# Altium schematic symbol library Type_C硬盘盒.SCHLIB: 16 symbols
Pins are listed as number, name and electrical type; pins without a type are passive.

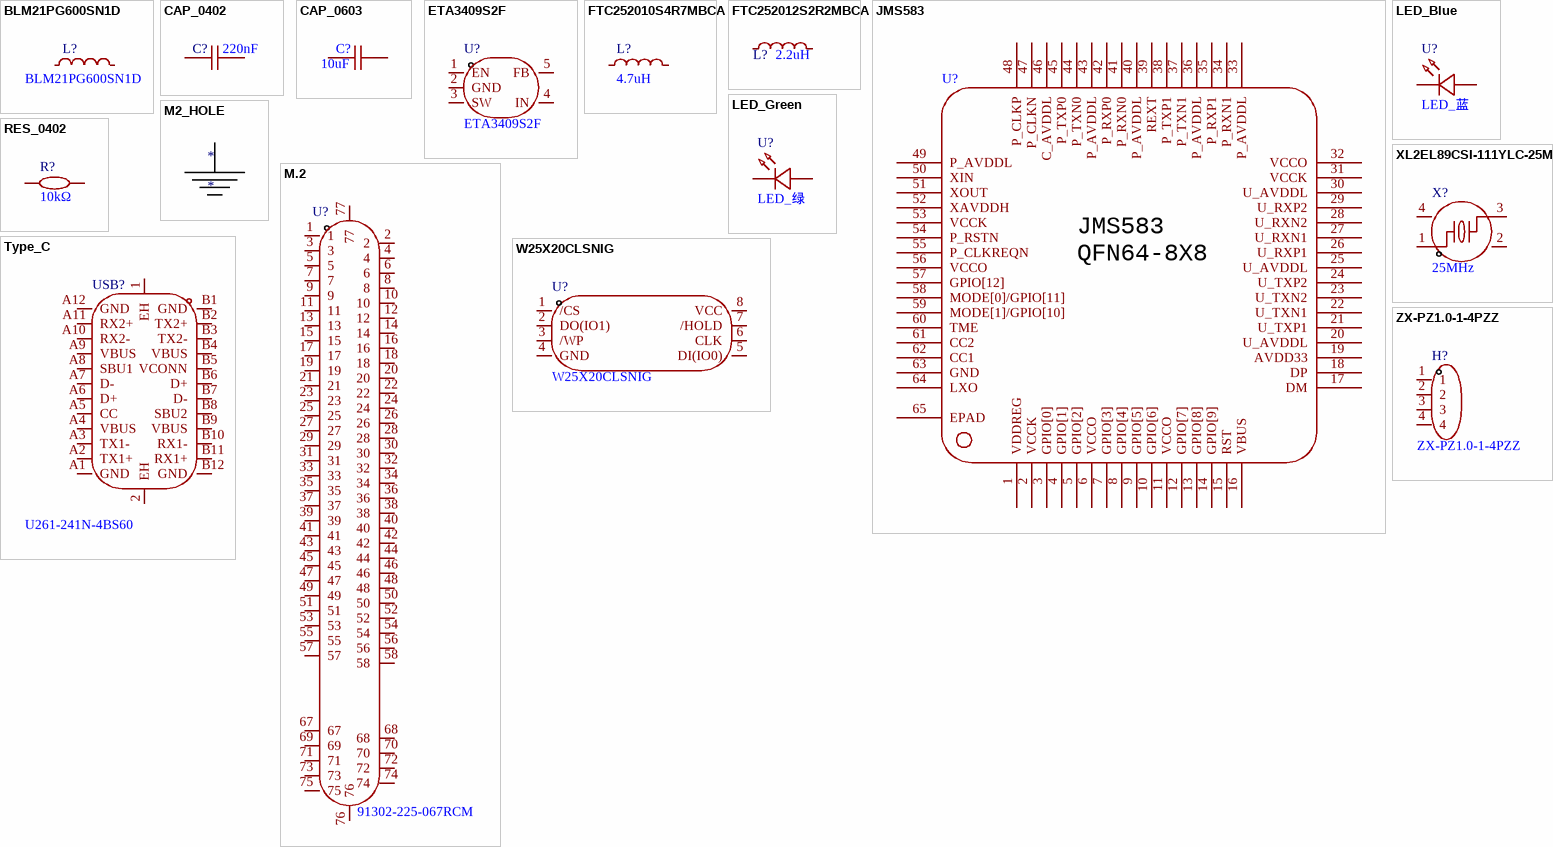
[diagram p0: symbols BLM21PG600SN1D to ZX-PZ1.0-1-4PZZ]

## BLM21PG600SN1D
designator L?
Manufacturer: muRata(村田); Add into BOM: yes; Impedance @ Frequency: 60Ω@100MHz; Tolerance: ±25%; DC Resistance(DCR): 20mΩ; Current Rating: 3.5A; Number of Circuits: 1; Symbol: BLM21PG600SN1D; Device: BLM21PG600SN1D; LCSC Part Name: 单路 0805磁珠 阻抗60Ω@100MHz; Supplier Part: C18305; Manufacturer Part: BLM21PG600SN1D; Supplier Footprint: 0805; JLCPCB Part Class: 扩展库; Datasheet: https://item.szlcsc.com/datasheet/BLM21PG600SN1D/19000.html; Supplier: LCSC; Convert to PCB: yes
footprint L0805
3D model R0805_L2.0-W1.3-H0.6
pins: 1, 2

## CAP_0402
designator C?, comment 220nF
Manufacturer: SAMSUNG(三星); Symbol: CL05B104KB54PNC; Add into BOM: yes; Tolerance: ±10%; Voltage Rating: 50V; Temperature Coefficient: X7R; Device: CL05B104KB54PNC; LCSC Part Name: 100nF ±10% 50V; Manufacturer Part: CL05B104KB54PNC; Supplier Footprint: 0402; JLCPCB Part Class: 基础库; Datasheet: https://item.szlcsc.com/datasheet/CL05B104KB54PNC/291005.html; Supplier: LCSC; Convert to PCB: yes; Value: 220nF
footprint C0402
3D model C0402_L1.0-W0.5-H0.5
pins: 1, 2

## CAP_0603
designator C?, comment 10uF
Symbol: Capacitance; Device: CAP_0603; Convert to PCB: yes; Add into BOM: yes; Supplier Footprint: 0603; Value: 10uF
footprint C0603
3D model C0603_L1.6-W0.8-H0.8
pins: 1, 2

## ETA3409S2F
designator U?
Manufacturer: ETA(钰泰); Add into BOM: yes; Function: 降压型; Output Type: 可调; Voltage - Supply: 2.4V~7.3V; Output Current: 3A; Frequency - Switching: 1MHz; Number of Outputs: 1; Topology: 降压式; Switch tube (built-in/external): 内置; Symbol: ETA3409S2F; Device: ETA3409S2F; LCSC Part Name: 3A 1MHz 同步降压转换器; Supplier Part: C7465553; Manufacturer Part: ETA3409S2F; Supplier Footprint: SOT23-5; JLCPCB Part Class: 扩展库; Datasheet: https://atta.szlcsc.com/upload/public/pdf/source/20230717/1A18EB96698AD4DC30E5926DF3CDB8A4.pdf; Supplier: LCSC; Convert to PCB: yes; Operating Temperature: -40℃~+85℃; Synchronous Rectifier: -; Quiescent Current: -
footprint SOT-23-5_L2.9-W1.6-P0.95-LS2.8-BL
3D model SOT-23-5_L2.9-W1.6-P0.95-LS2.8-BL
pins: 1 EN, 2 GND, 3 SW, 4 IN, 5 FB

## FTC252010S4R7MBCA
designator L?, comment 4.7uH
Manufacturer: cjiang(长江微电); Symbol: FTC252010S4R7MBCA; Add into BOM: yes; Tolerance: ±20%; Current Rating: 2A; Current - Saturation(Isat): 2.6A; DC Resistance(DCR): 160mΩ; Device: FTC252010S4R7MBCA; LCSC Part Name: 4.7uH ±20% 2.6A; Supplier Part: C5832360; Manufacturer Part: FTC252010S4R7MBCA; Supplier Footprint: 1008; JLCPCB Part Class: 扩展库; Datasheet: https://item.szlcsc.com/datasheet/FTC252010S4R7MBCA/6763480.html; Supplier: LCSC; Convert to PCB: yes; Value: 4.7uH; Type: -
footprint IND-SMD_L2.5-W2.0-VLS252012CX-150M
3D model IND-SMD_L2.5-W2.0-VLS252012CX-150M
pins: 1, 2

## FTC252012S2R2MBCA
designator L?, comment 2.2uH
Manufacturer: cjiang(长江微电); Symbol: FTC252012S2R2MBCA; Add into BOM: yes; Tolerance: ±20%; Rated Current: 3A; Saturation Current (Isat): 3.8A; DC Resistance (DCR): 55mΩ; Type: 一体成型电感; Device: FTC252012S2R2MBCA; LCSC Part Name: 2.2uH ±20% 3.8A; Supplier Part: C5832372; Manufacturer Part: FTC252012S2R2MBCA; Supplier Footprint: 1008; JLCPCB Part Class: 扩展库; Datasheet: https://atta.szlcsc.com/upload/public/pdf/source/20230602/8FFEDA9C0247A92A0D4B67554BFE4091.pdf; Supplier: LCSC; Convert to PCB: yes; Value: 2.2uH
footprint IND-SMD_L2.5-W2.0_MHCHL2520
3D model IND-SMD_L2.5-W2.0_MHCHL2520
pins: 1, 2

## JMS583
designator U?  (value not drawn)
Add into BOM: yes; PCB Footprint: QFN64-8X8-1; Symbol: JMS583; Device: JMS583; Convert to PCB: yes
footprint QFN-64_L8.0-W8.0-P0.40-TL-EP6.0
pins: 1 VDDREG, 2 VCCK, 3 GPIO[0], 4 GPIO[1], 5 GPIO[2], 6 VCCO, 7 GPIO[3], 8 GPIO[4], 9 GPIO[5], 10 GPIO[6], 11 VCCO, 12 GPIO[7], 13 GPIO[8], 14 GPIO[9], 15 RST, 16 VBUS, 17 DM, 18 DP, 19 AVDD33, 20 U_AVDDL, 21 U_TXP1, 22 U_TXN1, 23 U_TXN2, 24 U_TXP2, 25 U_AVDDL, 26 U_RXP1, 27 U_RXN1, 28 U_RXN2, 29 U_RXP2, 30 U_AVDDL, 31 VCCK, 32 VCCO, 33 P_AVDDL, 34 P_RXN1, 35 P_RXP1, 36 P_AVDDL, 37 P_TXN1, 38 P_TXP1, 39 REXT, 40 P_AVDDL, 41 P_RXN0, 42 P_RXP0, 43 P_AVDDL, 44 P_TXN0, 45 P_TXP0, 46 C_AVDDL, 47 P_CLKN, 48 P_CLKP, 49 P_AVDDL, 50 XIN, 51 XOUT, 52 XAVDDH, 53 VCCK, 54 P_RSTN, 55 P_CLKREQN, 56 VCCO, 57 GPIO[12], 58 MODE[0]/GPIO[11], 59 MODE[1]/GPIO[10], 60 TME, 61 CC2, 62 CC1, 63 GND, 64 LXO, 65 EPAD
text: JMS583 / QFN64-8X8

## LED_Blue
designator U?, comment LED_蓝
Manufacturer: XINGLIGHT(成兴光); Symbol: XL-1608UBC-06A; Add into BOM: yes; Illumination Color: 蓝色; Voltage - Forward(Vf): 2.6V~3V; Forward Current: 5mA; Wavelength - Dominant: 456nm~476nm; Lens Color: 无色透明透镜; Viewing Angle: 130°; Mounting Sytle: 正贴; Device: XL-1608UBC-06A; LCSC Part Name: XL-1608UBC-06A; Supplier Part: C7371904; Manufacturer Part: LED_蓝; Supplier Footprint: 0603; JLCPCB Part Class: 扩展库; Datasheet: https://item.szlcsc.com/datasheet/XL-1608UBC-06A/8342976.html; Supplier: LCSC; Convert to PCB: yes; Lamp Holder Type: -; Power(Watts): -; Peak Wavelength: -; Diode Configuration: -; Color Temperature: -; Luminous Intensity: -; Operating Temperature: -
footprint LED0603-R-RD
3D model LED0603-R-RD
pins: 1 A, 2 K

## LED_Green
designator U?, comment LED_绿
Manufacturer: XINGLIGHT(成兴光); Symbol: XL-1608PGC-06; Add into BOM: yes; Illumination Color: 翠绿色; Voltage - Forward(Vf): 2.6V~3V; Wavelength - Dominant: 515nm~530nm; Peak Wavelength: 525nm; Lens Color: 绿色透镜; Luminous Intensity: 900mcd; Viewing Angle: 120°; Device: XL-1608PGC-06; LCSC Part Name: 0603加粉翠绿0.6T贴片式发光二极管; Supplier Part: C7371905; Manufacturer Part: LED_绿; Supplier Footprint: 0603; JLCPCB Part Class: 扩展库; Datasheet: https://item.szlcsc.com/datasheet/XL-1608PGC-06/8342977.html; Supplier: LCSC; Convert to PCB: yes; Lamp Holder Type: -; Power(Watts): -; Forward Current: -; Diode Configuration: -; Color Temperature: -; Mounting Style: 正贴; Operating Temperature: -
footprint LED0603-RD_GREEN
3D model LED0603-RD_GREEN
pins: 1 K, 2 A

## M2_HOLE
designator *
footprint M2_HOLE
pins: 0

## M.2
designator U?, comment 91302-225-067RCM
Manufacturer: UMaxconn(友贸); Add into BOM: yes; Interface Form: M.2-M Key; Connector Type: 母; Supplementary Features: 带柱; Symbol: 91302-225-067RCM; Device: 91302-225-067RCM; LCSC Part Name: 91302-225-067RCM; Supplier Part: C42387244; Manufacturer Part: 91302-225-067RCM; Supplier Footprint: SMD; JLCPCB Part Class: 扩展库; Datasheet: https://atta.szlcsc.com/upload/public/pdf/source/20241115/E5280E40E542625C5F46F982007C9B56.pdf; Supplier: LCSC; Convert to PCB: yes; Number of Pins: 67P; Mounting Type: 卧贴; Height Above Board: 2.25mm; Operating Temperature: -
footprint CONN-SMD_91302-225-067RCM
3D model CONN-SMD_91302-225-067RCM
pins: 1, 2, 3, 4, 5, 6, 7, 8, 9, 10, 11, 12, 13, 14, 15, 16, 17, 18, 19, 20, 21, 22, 23, 24, 25, 26, 27, 28, 29, 30, 31, 32, 33, 34, 35, 36, 37, 38, 39, 40, 41, 42, 43, 44, 45, 46, 47, 48, 49, 50, 51, 52, 53, 54, 55, 56, 57, 58, 67, 68, 69, 70, 71, 72, 73, 74, 75, 76, 77

## RES_0402
designator R?, comment 10kΩ
Manufacturer: UNI-ROYAL(厚声); Symbol: 0402WGF1002TCE; Add into BOM: yes; Tolerance: ±1%; Power(Watts): 62.5mW; Voltage-Supply(Max): 50V; Temperature Coefficient: ±100ppm/℃; Device: 0402WGF1002TCE; LCSC Part Name: 10kΩ ±1% 62.5mW 厚膜电阻; Supplier Part: C25744; Manufacturer Part: 0402WGF1002TCE; Supplier Footprint: 0402; JLCPCB Part Class: 基础库; Datasheet: https://item.szlcsc.com/datasheet/0402WGF1002TCE/26487.html; Supplier: LCSC; Convert to PCB: yes; Type: 厚膜电阻; Value: 10kΩ; Operating Temperature: -55℃~+155℃
footprint R0402
3D model R0402_L1.0-W0.5-H0.4
pins: 1, 2

## Type_C
designator USB?, comment U261-241N-4BS60
Manufacturer: XKB Connection(中国星坤); Add into BOM: yes; Connector Type: Type-C; Gender: 公; Number of Contacts: 24P; Number of Ports: 1; Current Rating - Power (Max): 5A; Soldering Temperature(Max): 260℃; Symbol: U261-241N-4BS60; Device: U261-241N-4BS60; LCSC Part Name: Type-C 公; Supplier Part: C319150; Manufacturer Part: U261-241N-4BS60; Supplier Footprint: SMD; JLCPCB Part Class: 扩展库; Datasheet: https://atta.szlcsc.com/upload/public/pdf/source/20200227/C319150_AD2CD3943CA114D7AAA081193314EFA4.pdf; Supplier: LCSC; Convert to PCB: yes; Standard: -; Mounting Style: -; Contact Material: 高导铜; Contact Plating: 金; Operating Temperature Range: -40℃~+85℃
footprint USB-TYPE-C-SMD_U261-241N-4BS60
3D model USB-TYPE-C-SMD_U261-241N-4BS60
pins: 1 EH, 2 EH, A1 GND, A2 TX1+, A3 TX1-, A4 VBUS, A5 CC, A6 D+, A7 D-, A8 SBU1, A9 VBUS, A10 RX2-, A11 RX2+, A12 GND, B1 GND, B2 TX2+, B3 TX2-, B4 VBUS, B5 VCONN, B6 D+, B7 D-, B8 SBU2, B9 VBUS, B10 RX1-, B11 RX1+, B12 GND

## W25X20CLSNIG
designator U?
Manufacturer: Winbond(华邦); Symbol: W25X20CLSNIG_C409019; Add into BOM: yes; Interface: SPI; Memory Size: 2Mbit; Clock Frequency: 104MHz; Voltage - Supply: 2.3V~3.6V; Standby Supply Current: 1uA; Program / Erase Cycles: 100000次; Page Programming Time (Tpp): 400us; Block Erase Time(tBE): 120ms@(32KB); Data Retention - TDR (Year): 20年; Device: W25X20CLSNIG; LCSC Part Name: 具有4KB扇区和双IO SPI接口的2Mbit 串行SPI闪存; Supplier Part: C409019; Manufacturer Part: W25X20CLSNIG; Supplier Footprint: SOIC-8; JLCPCB Part Class: 扩展库; Datasheet: https://item.szlcsc.com/datasheet/W25X20CLSNIG/398848.html; Supplier: LCSC; Convert to PCB: yes; Operating Temperature: -40℃~+85℃
footprint SOIC-8_L5.0-W4.0-P1.27-LS6.0-BL
3D model SOIC-8_L4.9-W3.9-H1.7-LS6.0-P1.27
pins: 1 /CS, 2 DO(IO1), 3 /WP, 4 GND, 5 DI(IO0), 6 CLK, 7 /HOLD, 8 VCC

## XL2EL89CSI-111YLC-25M
designator X?, comment 25MHz
Manufacturer: YXC(扬兴晶振); Symbol: XL2EL89CSI-111YLC-25M; Add into BOM: yes; Normal temperature Frequency Tolerance: ±10ppm; Load Capacitance: 20pF; Frequency Stability: ±20ppm; Device: XL2EL89CSI-111YLC-25M; LCSC Part Name: YSX321SL 25MHZ 4P 3225 20PF ±10PPM -40~85℃ (±20PPM); Supplier Part: C5280577; Manufacturer Part: XL2EL89CSI-111YLC-25M; Supplier Footprint: SMD3225-4P; JLCPCB Part Class: 扩展库; Datasheet: https://item.szlcsc.com/datasheet/XL2EL89CSI-111YLC-25M/6016759.html; Supplier: LCSC; Convert to PCB: yes; Type: 贴片晶振; Value: 25MHz; Operating Temperature: -40℃~+85℃
footprint CRYSTAL-SMD_4P-L3.2-W2.5-BL
3D model CRYSTAL-SMD_4P-L3.2-W2.5-BL
pins: 1, 2 GND, 3, 4 GND

## ZX-PZ1.0-1-4PZZ
designator H?
Manufacturer: Megastar(兆星); Add into BOM: yes; Pin Structure: 1x4P; Pitch: 1mm; Circluar Pins/Square Pins: 方针; Current Rating: 750mA; Symbol: ZX-PZ1.0-1-4PZZ; Device: ZX-PZ1.0-1-4PZZ; LCSC Part Name: 1x4P 间距:1mm 方针 直插; Supplier Part: C37328854; Manufacturer Part: ZX-PZ1.0-1-4PZZ; Supplier Footprint: 插件,P=1mm; JLCPCB Part Class: 扩展库; Datasheet: https://item.szlcsc.com/datasheet/ZX-PZ1.0-1-4PZZ/39053335.html; Supplier: LCSC; Convert to PCB: yes; Row Spacing: -; Mounting Type: 直插; Number of Rows: 单排; Number of Pins: 4P; Voltage Rating (Max): -; Length of Mating Pin: 2mm; Insulation Height: 1mm; Length of End Connection Pin: 2mm; Contact Material: 黄铜; Contact Plating: 金; Operating Temperature: -40℃~+105℃; Color: 黑色
footprint HDR-TH_ZX-PZ1.0-1-4PZZ
3D model HDR-TH_ZX-PZ1.0-1-4PZZ
pins: 1, 2, 3, 4